# EAGLE library part ADIS16227 (library Neel)
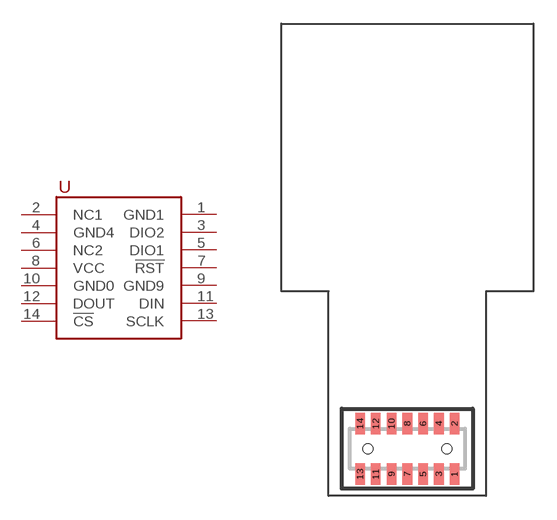
[diagram p1: symbol with the pads of CLM-107-02-XX-D-A; footprint CLM-107-02-XX-D-A]

Designator prefix -

## ADIS16227  [CLM-107-02-XX-D-A]
1  GND1
2  NC1
3  DIO2
4  GND4
5  DIO1
6  NC2
7  !RST
8  VCC
9  GND9
10  GND0
11  DIN
12  DOUT
13  SCLK
14  !CS

## Footprint CLM-107-02-XX-D-A (pad centres in mm)
Low profile Socket Strip, 1 mm Pitch, 14 Pins
smd 0.61 x 1.37: 1 3,-1.6; 2 3,1.6; 3 2,-1.6; 4 2,1.6; 5 1,-1.6; 6 1,1.6; 7 0,-1.6; 8 0,1.6; 9 -1,-1.6; 10 -1,1.6; 11 -2,-1.6; 12 -2,1.6; 13 -3,-1.6; 14 -3,1.6
hole 0.635 at 2.5,0
hole 0.635 at -2.5,0